# Altium footprint library RAPC712TRP22X.PcbLib: 1 footprints
Each footprint in its own frame and in the unit in brackets; x right, y up, seen from the top. Pads: shape width x height; smd on the part's side, far side on the other; paste and mask are expansions set on the pad; w line width, h text height; cw(c..) or ccw(c..) is an arc to the next point about the centre after c.
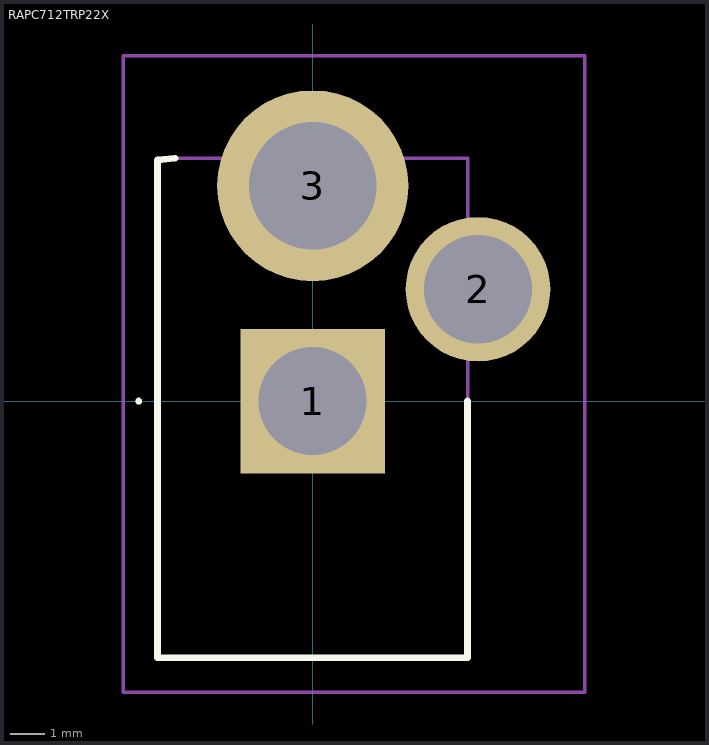
[diagram p0: the footprint, top view; thin cyan lines are the x and y axes]

## RAPC712TRP22X [mm]
pads (3):
  rect 4.2x4.2 hole 3.14: 1(0,0)
  round 4.2 hole 3.14: 2(4.8,3.25)
  round 5.55 hole 3.7: 3(0,6.25)
Top Overlay:
  lines w0.1: -5.1,0 cw(c-5.05,0) -5,0 ; -5.1,0 -5.1,0 ; -5.1,0 ccw(c-5.05,0) -5,0 ; -5,0 -5,0
  lines w0.2: -4,7.05 -4.5,7 -4.5,-7.45 4.5,-7.45 4.5,0
Mechanical 15:
  lines w0.1: -4.5,-7.45 4.5,-7.45 4.5,7.05 -4.5,7.05 -4.5,-7.45
Mechanical 20:
  lines w0.1: -5.5,-8.45 7.9,-8.45 7.9,10.025 -5.5,10.025 -5.5,-8.45